# Altium footprint library 0201Capacitor_KEMET.PcbLib: 3 footprints
Each footprint in its own frame and in the unit in brackets; x right, y up, seen from the top. Pads: shape width x height; smd on the part's side, far side on the other; paste and mask are expansions set on the pad; w line width, h text height; cw(c..) or ccw(c..) is an arc to the next point about the centre after c.
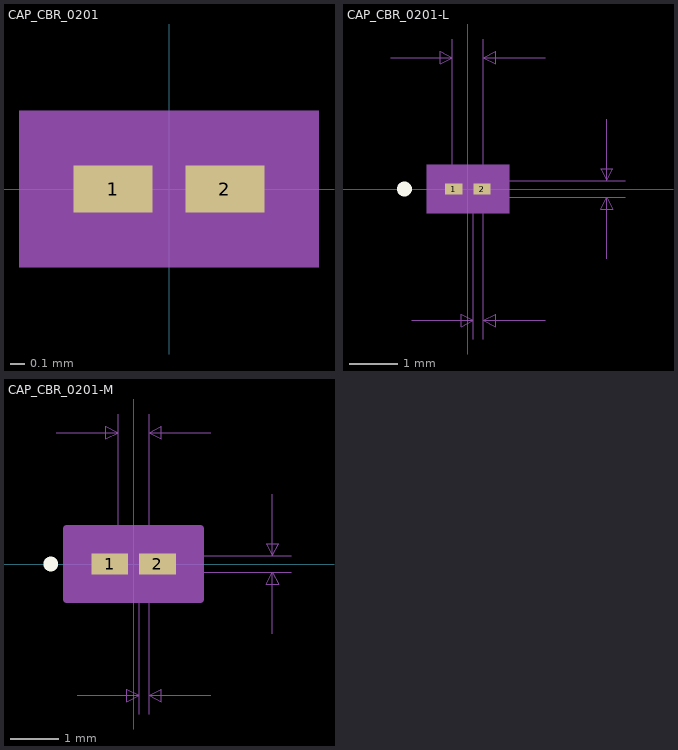
[diagram p0: the footprints below, top view; thin cyan lines are the x and y axes]

## CAP_CBR_0201 [mil]
pads (2):
  rect 21.78x13 smd paste+0 mask+0: 1(-15.39,0) 2(15.39,0)
Mechanical 5:
  region: 41.28,-21.5 -41.28,-21.5 -41.28,21.5 41.28,21.5
Mechanical 13:
  circle w0: c-10.39,0 r3
  lines w1: -12.5,-6.5 -12.5,6.5 ; -12.5,-6.5 -4.5,-6.5 -4.5,6.5 -12.5,6.5 ; -12.5,-6.5 12.5,-6.5 ; -12.5,-6.5 -12.5,6.5 ; -12.5,6.5 12.5,6.5 ; 12.5,-6.5 4.5,-6.5 4.5,6.5 12.5,6.5 ; 12.5,-6.5 12.5,6.5 ; 12.5,-6.5 12.5,6.5
Mechanical 15:
  region: 36.28,-16.5 -36.28,-16.5 -36.28,16.5 36.28,16.5
  lines w6: -36.28,-16.5 -36.28,16.5 36.28,16.5 36.28,-16.5 -36.28,-16.5
3D body: height 10, standoff 0, extent 0,0 10,10

## CAP_CBR_0201-L [mil]
pads (2):
  rect 13.91x9.06 smd paste+0 mask+0: 1(-11.45,0) 2(11.45,0)
Top Overlay:
  circle w6: c-51.41,0 r3
Mechanical 5:
  region: 33.41,-19.53 -33.41,-19.53 -33.41,19.53 33.41,19.53
Mechanical 7:
  lines w1: -62.5,106.5 -12.5,106.5 ; -45.5,-106.5 4.5,-106.5 ; -12.5,0 -12.5,121.5 ; 0,-6.5 127.5,-6.5 ; 0,6.5 127.5,6.5 ; 4.5,-121.5 4.5,0 ; 12.5,-121.5 12.5,0 12.5,121.5 ; 62.5,-106.5 12.5,-106.5 ; 62.5,106.5 12.5,106.5 ; 112.5,-56.5 112.5,-6.5 ; 112.5,56.5 112.5,6.5 ; -12.5,106.5 -22.5,111.5 -22.5,101.5 -12.5,106.5 ; 4.5,-106.5 -5.5,-101.5 -5.5,-111.5 4.5,-106.5 ; 12.5,-106.5 22.5,-101.5 22.5,-111.5 12.5,-106.5 ; 12.5,106.5 22.5,111.5 22.5,101.5 12.5,106.5 ; 112.5,-6.5 107.5,-16.5 117.5,-16.5 112.5,-6.5 ; 112.5,6.5 107.5,16.5 117.5,16.5 112.5,6.5
  text "Default Padstyle: r35_23" at -300,-274.53 h50
  text "Alternate 1 Padstyle: b152_229h76" at -412.5,-374.53 h50
  text "Alternate 2 Padstyle: b229_152h76" at -412.5,-474.53 h50
  text "0.013in/0.33mm" at 132.5,-12.5 h25
  text "0.025in/0.635mm" at -93.75,126.5 h25
  text "0.008in/0.203mm" at -85.25,-151.5 h25
Mechanical 13:
  circle w0: c-6.45,0 r3
  lines w1: -12.5,-6.5 -12.5,6.5 ; -12.5,-6.5 -4.5,-6.5 -4.5,6.5 -12.5,6.5 ; -12.5,-6.5 12.5,-6.5 ; -12.5,-6.5 -12.5,6.5 ; -12.5,6.5 12.5,6.5 ; 12.5,-6.5 4.5,-6.5 4.5,6.5 12.5,6.5 ; 12.5,-6.5 12.5,6.5 ; 12.5,-6.5 12.5,6.5
Mechanical 15:
  region: 22.41,-8.53 -22.41,-8.53 -22.41,8.53 22.41,8.53
  lines w6: -22.41,-8.53 -22.41,8.53 22.41,8.53 22.41,-8.53 -22.41,-8.53
3D body: height 10, standoff 0, extent 0,0 10,10

## CAP_CBR_0201-M [mil]
pads (2):
  rect 29.65x16.94 smd paste+0 mask+0: 1(-19.33,0) 2(19.33,0)
Top Overlay:
  circle w6: c-67.15,0 r3
Mechanical 5:
  region: 49.15,-23.47 -49.15,-23.47 -49.15,23.47 49.15,23.47
Mechanical 7:
  lines w1: -62.5,106.5 -12.5,106.5 ; -45.5,-106.5 4.5,-106.5 ; -12.5,0 -12.5,121.5 ; 0,-6.5 127.5,-6.5 ; 0,6.5 127.5,6.5 ; 4.5,-121.5 4.5,0 ; 12.5,-121.5 12.5,0 12.5,121.5 ; 62.5,-106.5 12.5,-106.5 ; 62.5,106.5 12.5,106.5 ; 112.5,-56.5 112.5,-6.5 ; 112.5,56.5 112.5,6.5 ; -12.5,106.5 -22.5,111.5 -22.5,101.5 -12.5,106.5 ; 4.5,-106.5 -5.5,-101.5 -5.5,-111.5 4.5,-106.5 ; 12.5,-106.5 22.5,-101.5 22.5,-111.5 12.5,-106.5 ; 12.5,106.5 22.5,111.5 22.5,101.5 12.5,106.5 ; 112.5,-6.5 107.5,-16.5 117.5,-16.5 112.5,-6.5 ; 112.5,6.5 107.5,16.5 117.5,16.5 112.5,6.5
  text "Default Padstyle: r75_43" at -300,-278.47 h50
  text "Alternate 1 Padstyle: b152_229h76" at -412.5,-378.47 h50
  text "Alternate 2 Padstyle: b229_152h76" at -412.5,-478.47 h50
  text "0.013in/0.33mm" at 132.5,-12.5 h25
  text "0.025in/0.635mm" at -93.75,126.5 h25
  text "0.008in/0.203mm" at -85.25,-151.5 h25
Mechanical 13:
  circle w0: c-14.33,0 r3
  lines w1: -12.5,-6.5 -12.5,6.5 ; -12.5,-6.5 -4.5,-6.5 -4.5,6.5 -12.5,6.5 ; -12.5,-6.5 12.5,-6.5 ; -12.5,-6.5 -12.5,6.5 ; -12.5,6.5 12.5,6.5 ; 12.5,-6.5 4.5,-6.5 4.5,6.5 12.5,6.5 ; 12.5,-6.5 12.5,6.5 ; 12.5,-6.5 12.5,6.5
Mechanical 15:
  region: 54.15,-28.47 -54.15,-28.47 -54.15,28.47 54.15,28.47
  lines w6: -54.15,-28.47 -54.15,28.47 54.15,28.47 54.15,-28.47 -54.15,-28.47
3D body: height 10, standoff 0, extent 0,0 10,10